# EAGLE library part TRANSFORMER_MURATA_78253_SERIES (library ERIC)
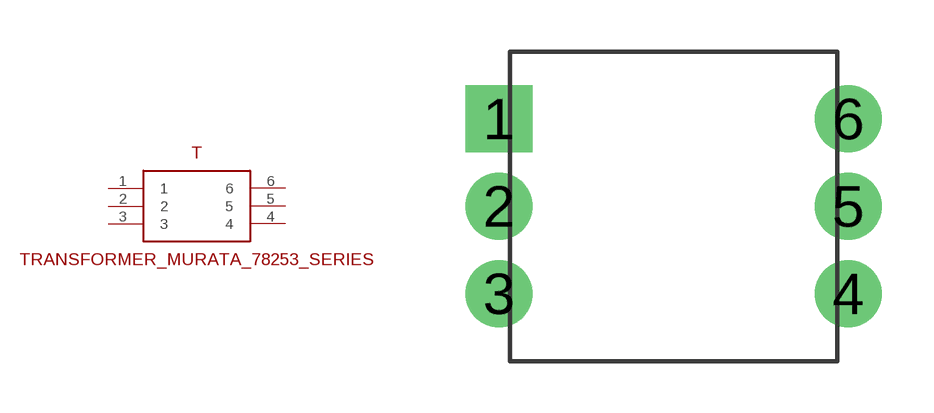
[diagram p39: symbol with the pads of DIL_6_PIN_MURATA_4MIL; footprint DIL_6_PIN_MURATA_4MIL]

Designator prefix T

## TRANSFORMER_MURATA_78253_SERIESDIL  [DIL_6_PIN_MURATA_4MIL]
1  1
2  2
3  3
4  4
5  5
6  6

## Footprint DIL_6_PIN_MURATA_4MIL (pad centres in mm)
drill 1.3 square: 1 -5.08,2.54
drill 1.3: 2 -5.08,0; 3 -5.08,-2.54; 4 5.08,-2.54; 5 5.08,0; 6 5.08,2.54